# Altium schematic symbol library kmilo17pet-LT_OpAmp_LT2000.SchLib: 1710 symbols (part 60 of 75)
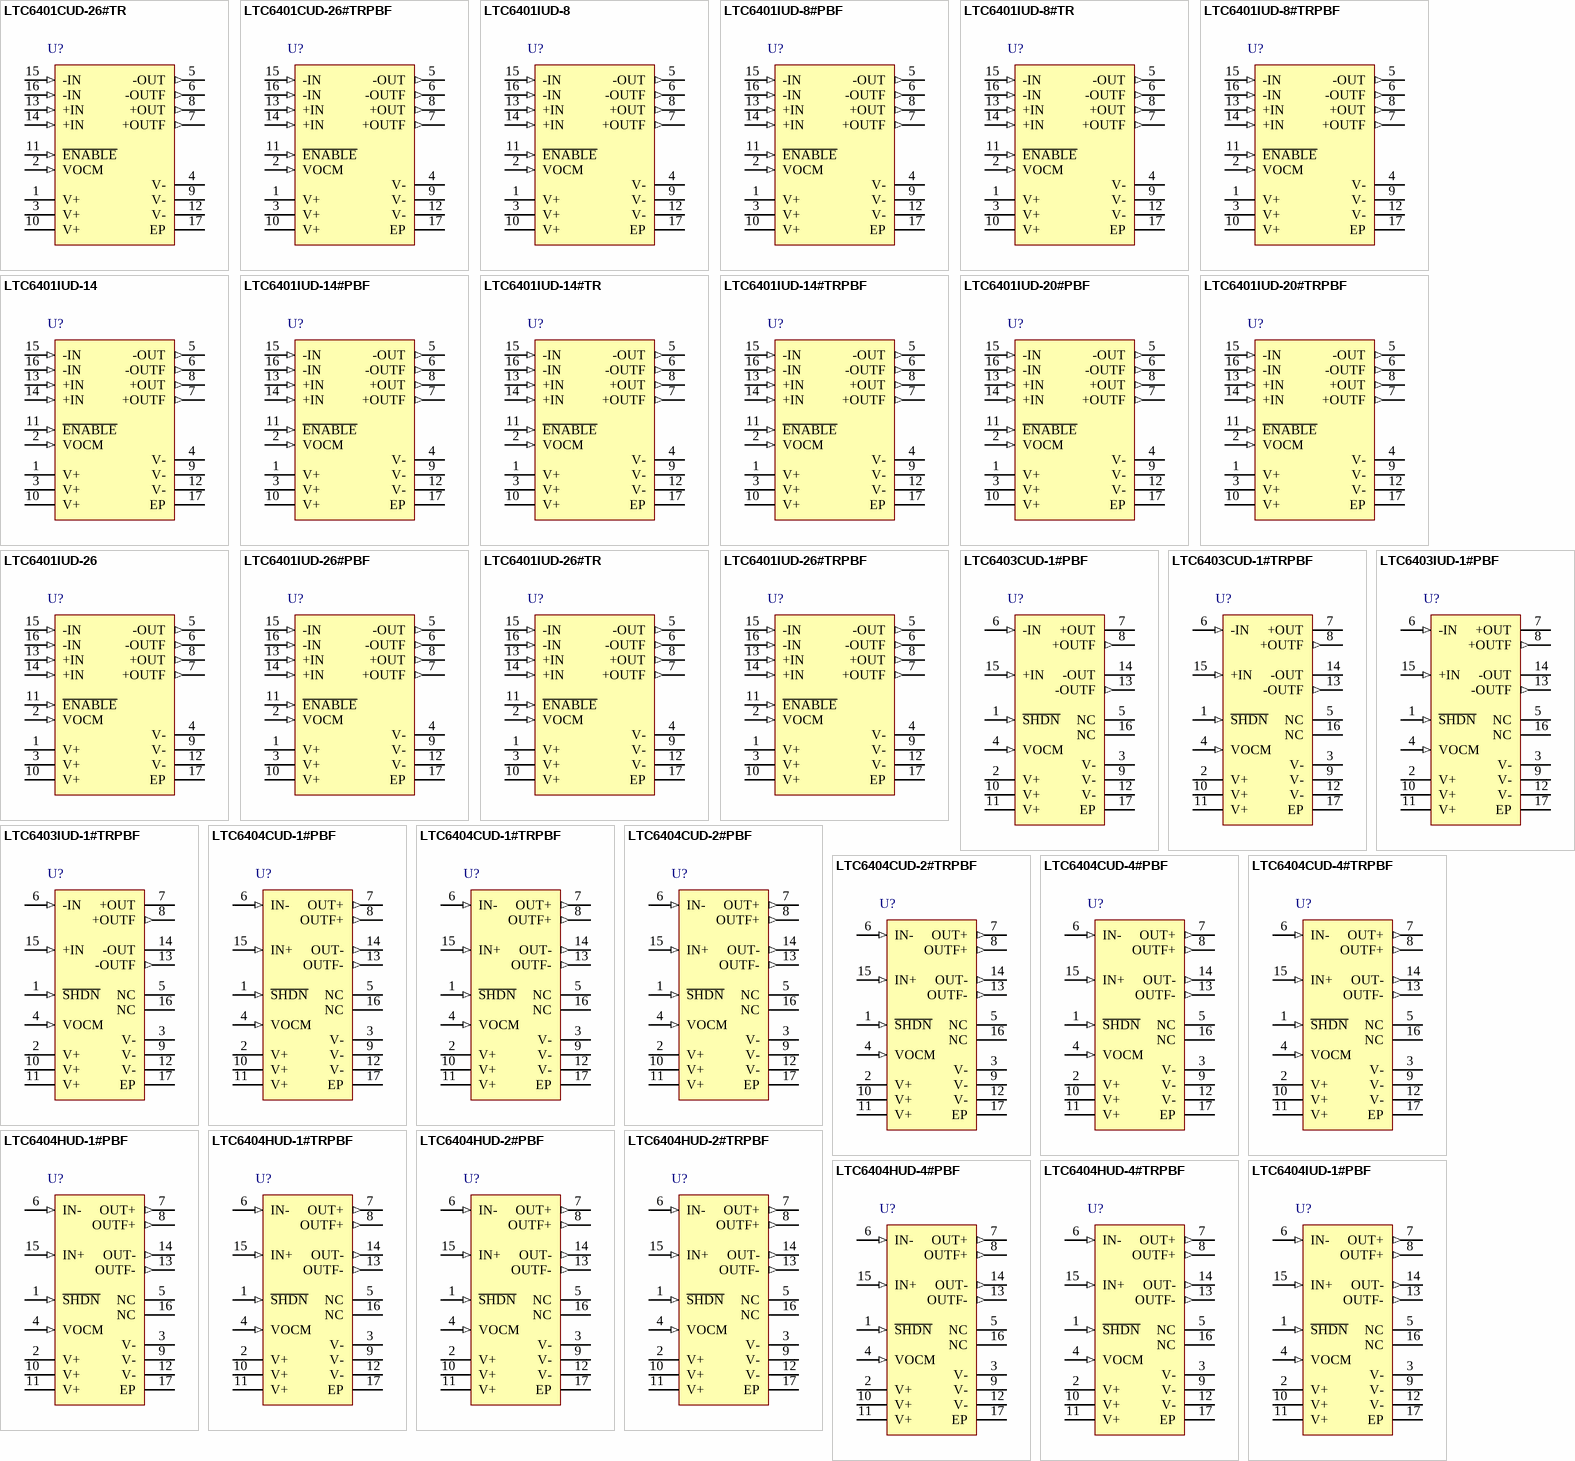
[diagram p139: symbols LTC6401CUD-26#TR to LTC6404IUD-1#PBF]

## LTC6404HUD-1#TRPBF
designator U?
Single Channel, Low Noise, High Precision, Fully Differential Input / Output Amplifier / Driver, 600 MHz Typical GBW, 450 V/us Typical SR, 2.7 to 5.5 V, 16-Pin QFN (UD-16), High Temperature / Automotive, Pb-Free, Reel; Linear Technology Part Number: LTC6404-1; Manufacturer: Linear Technology; PartNumber: LTC6404HUD-1#TRPBF; Channels (#): 1; GBW (MHz) Typical: 600; Is (mA) Typical: 27.2; SR (V/us) Typical: 450; Vos (mV) Typical: 0.5; Vs Max (V): 5.5; Vs Min (V): 2.7; PackageReference: LT-UD-16; PackageDescription: 16-Lead Plastic QFN, Body 3.00 x 3.00 mm, Pitch 0.5 mm; Supplier 1: Digi-Key; Supplier Part Number 1: LTC6404HUD-1#TRPBF-ND; Packing: Reel; RoHS: Pb-Free; Type: DIFF; Mounting Technology: Surface Mount; Code_JEDEC: MO-220; ComponentLink1Description: Manufacturer URL; ComponentLink1URL: http://www.linear.com/; ComponentLink2Description: Datasheet; ComponentLink2URL: http://cds.linear.com/docs/en/datasheet/6404f.pdf; ComponentLink3Description: Package Specification; ComponentLink3URL: http://cds.linear.com/docs/en/packaging/QFN_16_05-08-1691.pdf
footprint LT-UD-16_N (QFN, 16-Leads, Body 3x3mm, Pitch 0.5mm, Thermal Pad 1.45x1.45mm, IPC Medium Density)
footprint LT-UD-16_L (QFN, 16-Leads, Body 3x3mm, Pitch 0.5mm, Thermal Pad 1.45x1.45mm, IPC High Density)
footprint LT-UD-16_M (QFN, 16-Leads, Body 3x3mm, Pitch 0.5mm, Thermal Pad 1.45x1.45mm, IPC Low Density)
pins: 1 ~{SHDN} (in) "When S\H\D\N\ is floating or directly tied to V+, the LTC6404 is in the normal (active) operating mode. When Pin 1 is pulled a minimum of 2.1V below V+, the LTC6404 enters into a low power shutdown state. See Applications (See Datasheet)", 2 V+ (power) "Power Supply Pins. Three pairs of power supply pins are provided to keep the power supply inductance as low as possible to prevent degradation of amplifier 2nd harmonic performance. See the Layout Considerations section for (See Datasheet)", 3 V- (power) "Power Supply Pins. Three pairs of power supply pins are provided to keep the power supply inductance as low as possible to prevent degradation of amplifier 2nd harmonic performance. See the Layout Considerations section for (See Datasheet)", 4 VOCM (in) "Output Common Mode Reference Voltage. The voltage on VOCM sets the output common mode voltage level (which is defined as the average of the voltages on the OUT+ and OUT- pins). The VOCM pin is the midpoint of an internal (See Datasheet)", 5 NC "No Connection. These pins are not connected internally.", 6 IN- (in) "Noninverting and Inverting Input Pins of the Amplifi er, Respectively. For best performance, it is highly recommended that stray capacitance be kept to an absolute minimum by keeping printed circuit connections as short as (See Datasheet)", 7 OUT+ (out) "Unfi ltered Output Pins. Besides driving the feedback network, each pin can drive an additional 50ohm to ground with typical short-circuit current limiting of +/-65mA. Each amplifi er output is designed to drive a load (See Datasheet)", 8 OUTF+ (out) "Filtered Output Pins. These pins have a series 50ohm resistor connected between the fi ltered and unfi ltered outputs and three 12pF capacitors. Both OUTF+ and OUTF- have 12pF to V-, plus an additional 12pF differentially (See Datasheet)", 9 V- (power) "Power Supply Pins. Three pairs of power supply pins are provided to keep the power supply inductance as low as possible to prevent degradation of amplifier 2nd harmonic performance. See the Layout Considerations section for (See Datasheet)", 10 V+ (power) "Power Supply Pins. Three pairs of power supply pins are provided to keep the power supply inductance as low as possible to prevent degradation of amplifier 2nd harmonic performance. See the Layout Considerations section for (See Datasheet)", 11 V+ (power) "Power Supply Pins. Three pairs of power supply pins are provided to keep the power supply inductance as low as possible to prevent degradation of amplifier 2nd harmonic performance. See the Layout Considerations section for (See Datasheet)", 12 V- (power) "Power Supply Pins. Three pairs of power supply pins are provided to keep the power supply inductance as low as possible to prevent degradation of amplifier 2nd harmonic performance. See the Layout Considerations section for (See Datasheet)", 13 OUTF- (out) "Filtered Output Pins. These pins have a series 50ohm resistor connected between the fi ltered and unfi ltered outputs and three 12pF capacitors. Both OUTF+ and OUTF- have 12pF to V-, plus an additional 12pF differentially (See Datasheet)", 14 OUT- (out) "Unfiltered Output Pins. Besides driving the feedback network, each pin can drive an additional 50ohm to ground with typical short-circuit current limiting of +/-65mA. Each amplifi er output is designed to drive a load (See Datasheet)", 15 IN+ (in) "Noninverting and Inverting Input Pins of the Amplifi er, Respectively. For best performance, it is highly recommended that stray capacitance be kept to an absolute minimum by keeping printed circuit connections as short as (See Datasheet)", 16 NC "No Connection. These pins are not connected internally.", 17 EP (power) "Tie the pad to V- (Pins 3, 9, and 12). If split supplies are used, do not tie the pad to ground."

## LTC6404HUD-2#PBF
designator U?
Single Channel, Low Noise, High Precision, Fully Differential Input / Output Amplifier / Driver, 900 MHz Typical GBW, 700 V/us Typical SR, 2.7 to 5.5 V, 16-Pin QFN (UD-16), High Temperature / Automotive, Pb-Free; Linear Technology Part Number: LTC6404-2; Manufacturer: Linear Technology; PartNumber: LTC6404HUD-2#PBF; Channels (#): 1; GBW (MHz) Typical: 900; Is (mA) Typical: 29.7; SR (V/us) Typical: 700; Vos (mV) Typical: 0.5; Vs Max (V): 5.5; Vs Min (V): 2.7; PackageReference: LT-UD-16; PackageDescription: 16-Lead Plastic QFN, Body 3.00 x 3.00 mm, Pitch 0.5 mm; Supplier 1: Digi-Key; Supplier Part Number 1: LTC6404HUD-2#PBF-ND; RoHS: Pb-Free; Type: DIFF; Mounting Technology: Surface Mount; Code_JEDEC: MO-220; ComponentLink1Description: Manufacturer URL; ComponentLink1URL: http://www.linear.com/; ComponentLink2Description: Datasheet; ComponentLink2URL: http://cds.linear.com/docs/en/datasheet/6404f.pdf; ComponentLink3Description: Package Specification; ComponentLink3URL: http://cds.linear.com/docs/en/packaging/QFN_16_05-08-1691.pdf
footprint LT-UD-16_N (QFN, 16-Leads, Body 3x3mm, Pitch 0.5mm, Thermal Pad 1.45x1.45mm, IPC Medium Density)
footprint LT-UD-16_L (QFN, 16-Leads, Body 3x3mm, Pitch 0.5mm, Thermal Pad 1.45x1.45mm, IPC High Density)
footprint LT-UD-16_M (QFN, 16-Leads, Body 3x3mm, Pitch 0.5mm, Thermal Pad 1.45x1.45mm, IPC Low Density)
pins: 1 ~{SHDN} (in) "When S\H\D\N\ is floating or directly tied to V+, the LTC6404 is in the normal (active) operating mode. When Pin 1 is pulled a minimum of 2.1V below V+, the LTC6404 enters into a low power shutdown state. See Applications (See Datasheet)", 2 V+ (power) "Power Supply Pins. Three pairs of power supply pins are provided to keep the power supply inductance as low as possible to prevent degradation of amplifier 2nd harmonic performance. See the Layout Considerations section for (See Datasheet)", 3 V- (power) "Power Supply Pins. Three pairs of power supply pins are provided to keep the power supply inductance as low as possible to prevent degradation of amplifier 2nd harmonic performance. See the Layout Considerations section for (See Datasheet)", 4 VOCM (in) "Output Common Mode Reference Voltage. The voltage on VOCM sets the output common mode voltage level (which is defined as the average of the voltages on the OUT+ and OUT- pins). The VOCM pin is the midpoint of an internal (See Datasheet)", 5 NC "No Connection. These pins are not connected internally.", 6 IN- (in) "Noninverting and Inverting Input Pins of the Amplifi er, Respectively. For best performance, it is highly recommended that stray capacitance be kept to an absolute minimum by keeping printed circuit connections as short as (See Datasheet)", 7 OUT+ (out) "Unfi ltered Output Pins. Besides driving the feedback network, each pin can drive an additional 50ohm to ground with typical short-circuit current limiting of +/-65mA. Each amplifi er output is designed to drive a load (See Datasheet)", 8 OUTF+ (out) "Filtered Output Pins. These pins have a series 50ohm resistor connected between the fi ltered and unfi ltered outputs and three 12pF capacitors. Both OUTF+ and OUTF- have 12pF to V-, plus an additional 12pF differentially (See Datasheet)", 9 V- (power) "Power Supply Pins. Three pairs of power supply pins are provided to keep the power supply inductance as low as possible to prevent degradation of amplifier 2nd harmonic performance. See the Layout Considerations section for (See Datasheet)", 10 V+ (power) "Power Supply Pins. Three pairs of power supply pins are provided to keep the power supply inductance as low as possible to prevent degradation of amplifier 2nd harmonic performance. See the Layout Considerations section for (See Datasheet)", 11 V+ (power) "Power Supply Pins. Three pairs of power supply pins are provided to keep the power supply inductance as low as possible to prevent degradation of amplifier 2nd harmonic performance. See the Layout Considerations section for (See Datasheet)", 12 V- (power) "Power Supply Pins. Three pairs of power supply pins are provided to keep the power supply inductance as low as possible to prevent degradation of amplifier 2nd harmonic performance. See the Layout Considerations section for (See Datasheet)", 13 OUTF- (out) "Filtered Output Pins. These pins have a series 50ohm resistor connected between the fi ltered and unfi ltered outputs and three 12pF capacitors. Both OUTF+ and OUTF- have 12pF to V-, plus an additional 12pF differentially (See Datasheet)", 14 OUT- (out) "Unfiltered Output Pins. Besides driving the feedback network, each pin can drive an additional 50ohm to ground with typical short-circuit current limiting of +/-65mA. Each amplifi er output is designed to drive a load (See Datasheet)", 15 IN+ (in) "Noninverting and Inverting Input Pins of the Amplifi er, Respectively. For best performance, it is highly recommended that stray capacitance be kept to an absolute minimum by keeping printed circuit connections as short as (See Datasheet)", 16 NC "No Connection. These pins are not connected internally.", 17 EP (power) "Tie the pad to V- (Pins 3, 9, and 12). If split supplies are used, do not tie the pad to ground."

## LTC6404HUD-2#TRPBF
designator U?
Single Channel, Low Noise, High Precision, Fully Differential Input / Output Amplifier / Driver, 900 MHz Typical GBW, 700 V/us Typical SR, 2.7 to 5.5 V, 16-Pin QFN (UD-16), High Temperature / Automotive, Pb-Free, Reel; Linear Technology Part Number: LTC6404-2; Manufacturer: Linear Technology; PartNumber: LTC6404HUD-2#TRPBF; Channels (#): 1; GBW (MHz) Typical: 900; Is (mA) Typical: 29.7; SR (V/us) Typical: 700; Vos (mV) Typical: 0.5; Vs Max (V): 5.5; Vs Min (V): 2.7; PackageReference: LT-UD-16; PackageDescription: 16-Lead Plastic QFN, Body 3.00 x 3.00 mm, Pitch 0.5 mm; Supplier 1: Digi-Key; Supplier Part Number 1: LTC6404HUD-2#TRPBF-ND; Packing: Reel; RoHS: Pb-Free; Type: DIFF; Mounting Technology: Surface Mount; Code_JEDEC: MO-220; ComponentLink1Description: Manufacturer URL; ComponentLink1URL: http://www.linear.com/; ComponentLink2Description: Datasheet; ComponentLink2URL: http://cds.linear.com/docs/en/datasheet/6404f.pdf; ComponentLink3Description: Package Specification; ComponentLink3URL: http://cds.linear.com/docs/en/packaging/QFN_16_05-08-1691.pdf
footprint LT-UD-16_N (QFN, 16-Leads, Body 3x3mm, Pitch 0.5mm, Thermal Pad 1.45x1.45mm, IPC Medium Density)
footprint LT-UD-16_L (QFN, 16-Leads, Body 3x3mm, Pitch 0.5mm, Thermal Pad 1.45x1.45mm, IPC High Density)
footprint LT-UD-16_M (QFN, 16-Leads, Body 3x3mm, Pitch 0.5mm, Thermal Pad 1.45x1.45mm, IPC Low Density)
pins: 1 ~{SHDN} (in) "When S\H\D\N\ is floating or directly tied to V+, the LTC6404 is in the normal (active) operating mode. When Pin 1 is pulled a minimum of 2.1V below V+, the LTC6404 enters into a low power shutdown state. See Applications (See Datasheet)", 2 V+ (power) "Power Supply Pins. Three pairs of power supply pins are provided to keep the power supply inductance as low as possible to prevent degradation of amplifier 2nd harmonic performance. See the Layout Considerations section for (See Datasheet)", 3 V- (power) "Power Supply Pins. Three pairs of power supply pins are provided to keep the power supply inductance as low as possible to prevent degradation of amplifier 2nd harmonic performance. See the Layout Considerations section for (See Datasheet)", 4 VOCM (in) "Output Common Mode Reference Voltage. The voltage on VOCM sets the output common mode voltage level (which is defined as the average of the voltages on the OUT+ and OUT- pins). The VOCM pin is the midpoint of an internal (See Datasheet)", 5 NC "No Connection. These pins are not connected internally.", 6 IN- (in) "Noninverting and Inverting Input Pins of the Amplifi er, Respectively. For best performance, it is highly recommended that stray capacitance be kept to an absolute minimum by keeping printed circuit connections as short as (See Datasheet)", 7 OUT+ (out) "Unfi ltered Output Pins. Besides driving the feedback network, each pin can drive an additional 50ohm to ground with typical short-circuit current limiting of +/-65mA. Each amplifi er output is designed to drive a load (See Datasheet)", 8 OUTF+ (out) "Filtered Output Pins. These pins have a series 50ohm resistor connected between the fi ltered and unfi ltered outputs and three 12pF capacitors. Both OUTF+ and OUTF- have 12pF to V-, plus an additional 12pF differentially (See Datasheet)", 9 V- (power) "Power Supply Pins. Three pairs of power supply pins are provided to keep the power supply inductance as low as possible to prevent degradation of amplifier 2nd harmonic performance. See the Layout Considerations section for (See Datasheet)", 10 V+ (power) "Power Supply Pins. Three pairs of power supply pins are provided to keep the power supply inductance as low as possible to prevent degradation of amplifier 2nd harmonic performance. See the Layout Considerations section for (See Datasheet)", 11 V+ (power) "Power Supply Pins. Three pairs of power supply pins are provided to keep the power supply inductance as low as possible to prevent degradation of amplifier 2nd harmonic performance. See the Layout Considerations section for (See Datasheet)", 12 V- (power) "Power Supply Pins. Three pairs of power supply pins are provided to keep the power supply inductance as low as possible to prevent degradation of amplifier 2nd harmonic performance. See the Layout Considerations section for (See Datasheet)", 13 OUTF- (out) "Filtered Output Pins. These pins have a series 50ohm resistor connected between the fi ltered and unfi ltered outputs and three 12pF capacitors. Both OUTF+ and OUTF- have 12pF to V-, plus an additional 12pF differentially (See Datasheet)", 14 OUT- (out) "Unfiltered Output Pins. Besides driving the feedback network, each pin can drive an additional 50ohm to ground with typical short-circuit current limiting of +/-65mA. Each amplifi er output is designed to drive a load (See Datasheet)", 15 IN+ (in) "Noninverting and Inverting Input Pins of the Amplifi er, Respectively. For best performance, it is highly recommended that stray capacitance be kept to an absolute minimum by keeping printed circuit connections as short as (See Datasheet)", 16 NC "No Connection. These pins are not connected internally.", 17 EP (power) "Tie the pad to V- (Pins 3, 9, and 12). If split supplies are used, do not tie the pad to ground."

## LTC6404HUD-4#PBF
designator U?
Single Channel, Low Noise, High Precision, Fully Differential Input / Output Amplifier / Driver, 1700 MHz Typical GBW, 1200 V/us Typical SR, 2.7 to 5.5 V, 16-Pin QFN (UD-16), High Temperature / Automotive, Pb-Free; Linear Technology Part Number: LTC6404-4; Manufacturer: Linear Technology; PartNumber: LTC6404HUD-4#PBF; Channels (#): 1; GBW (MHz) Typical: 1700; Is (mA) Typical: 30; SR (V/us) Typical: 1200; Vos (mV) Typical: 0.5; Vs Max (V): 5.5; Vs Min (V): 2.7; PackageReference: LT-UD-16; PackageDescription: 16-Lead Plastic QFN, Body 3.00 x 3.00 mm, Pitch 0.5 mm; Supplier 1: Digi-Key; Supplier Part Number 1: LTC6404HUD-4#PBF-ND; RoHS: Pb-Free; Type: DIFF; Mounting Technology: Surface Mount; Code_JEDEC: MO-220; ComponentLink1Description: Manufacturer URL; ComponentLink1URL: http://www.linear.com/; ComponentLink2Description: Datasheet; ComponentLink2URL: http://cds.linear.com/docs/en/datasheet/6404f.pdf; ComponentLink3Description: Package Specification; ComponentLink3URL: http://cds.linear.com/docs/en/packaging/QFN_16_05-08-1691.pdf
footprint LT-UD-16_N (QFN, 16-Leads, Body 3x3mm, Pitch 0.5mm, Thermal Pad 1.45x1.45mm, IPC Medium Density)
footprint LT-UD-16_L (QFN, 16-Leads, Body 3x3mm, Pitch 0.5mm, Thermal Pad 1.45x1.45mm, IPC High Density)
footprint LT-UD-16_M (QFN, 16-Leads, Body 3x3mm, Pitch 0.5mm, Thermal Pad 1.45x1.45mm, IPC Low Density)
pins: 1 ~{SHDN} (in) "When S\H\D\N\ is floating or directly tied to V+, the LTC6404 is in the normal (active) operating mode. When Pin 1 is pulled a minimum of 2.1V below V+, the LTC6404 enters into a low power shutdown state. See Applications (See Datasheet)", 2 V+ (power) "Power Supply Pins. Three pairs of power supply pins are provided to keep the power supply inductance as low as possible to prevent degradation of amplifier 2nd harmonic performance. See the Layout Considerations section for (See Datasheet)", 3 V- (power) "Power Supply Pins. Three pairs of power supply pins are provided to keep the power supply inductance as low as possible to prevent degradation of amplifier 2nd harmonic performance. See the Layout Considerations section for (See Datasheet)", 4 VOCM (in) "Output Common Mode Reference Voltage. The voltage on VOCM sets the output common mode voltage level (which is defined as the average of the voltages on the OUT+ and OUT- pins). The VOCM pin is the midpoint of an internal (See Datasheet)", 5 NC "No Connection. These pins are not connected internally.", 6 IN- (in) "Noninverting and Inverting Input Pins of the Amplifier, Respectively. For best performance, it is highly recommended that stray capacitance be kept to an absolute minimum by keeping printed circuit connections as short as (See Datasheet)", 7 OUT+ (out) "Unfiltered Output Pins. Besides driving the feedback network, each pin can drive an additional 50ohm to ground with typical short-circuit current limiting of +/-65mA. Each amplifier output is designed to drive a load (See Datasheet)", 8 OUTF+ (out) "Filtered Output Pins. These pins have a series 50ohm resistor connected between the filtered and unfiltered outputs and three 12pF capacitors. Both OUTF+ and OUTF- have 12pF to V-, plus an additional 12pF differentially (See Datasheet)", 9 V- (power) "Power Supply Pins. Three pairs of power supply pins are provided to keep the power supply inductance as low as possible to prevent degradation of amplifier 2nd harmonic performance. See the Layout Considerations section for (See Datasheet)", 10 V+ (power) "Power Supply Pins. Three pairs of power supply pins are provided to keep the power supply inductance as low as possible to prevent degradation of amplifier 2nd harmonic performance. See the Layout Considerations section for (See Datasheet)", 11 V+ (power) "Power Supply Pins. Three pairs of power supply pins are provided to keep the power supply inductance as low as possible to prevent degradation of amplifier 2nd harmonic performance. See the Layout Considerations section for (See Datasheet)", 12 V- (power) "Power Supply Pins. Three pairs of power supply pins are provided to keep the power supply inductance as low as possible to prevent degradation of amplifier 2nd harmonic performance. See the Layout Considerations section for (See Datasheet)", 13 OUTF- (out) "Filtered Output Pins. These pins have a series 50ohm resistor connected between the filtered and unfiltered outputs and three 12pF capacitors. Both OUTF+ and OUTF- have 12pF to V-, plus an additional 12pF differentially (See Datasheet)", 14 OUT- (out) "Unfiltered Output Pins. Besides driving the feedback network, each pin can drive an additional 50ohm to ground with typical short-circuit current limiting of +/-65mA. Each amplifier output is designed to drive a load (See Datasheet)", 15 IN+ (in) "Noninverting and Inverting Input Pins of the Amplifier, Respectively. For best performance, it is highly recommended that stray capacitance be kept to an absolute minimum by keeping printed circuit connections as short as (See Datasheet)", 16 NC "No Connection. These pins are not connected internally.", 17 EP (power) "Tie the pad to V- (Pins 3, 9, and 12). If split supplies are used, do not tie the pad to ground."

## LTC6404HUD-4#TRPBF
designator U?
Single Channel, Low Noise, High Precision, Fully Differential Input / Output Amplifier / Driver, 1700 MHz Typical GBW, 1200 V/us Typical SR, 2.7 to 5.5 V, 16-Pin QFN (UD-16), High Temperature / Automotive, Pb-Free, Reel; Linear Technology Part Number: LTC6404-4; Manufacturer: Linear Technology; PartNumber: LTC6404HUD-4#TRPBF; Channels (#): 1; GBW (MHz) Typical: 1700; Is (mA) Typical: 30; SR (V/us) Typical: 1200; Vos (mV) Typical: 0.5; Vs Max (V): 5.5; Vs Min (V): 2.7; PackageReference: LT-UD-16; PackageDescription: 16-Lead Plastic QFN, Body 3.00 x 3.00 mm, Pitch 0.5 mm; Supplier 1: Digi-Key; Supplier Part Number 1: LTC6404HUD-4#TRPBF-ND; Packing: Reel; RoHS: Pb-Free; Type: DIFF; Mounting Technology: Surface Mount; Code_JEDEC: MO-220; ComponentLink1Description: Manufacturer URL; ComponentLink1URL: http://www.linear.com/; ComponentLink2Description: Datasheet; ComponentLink2URL: http://cds.linear.com/docs/en/datasheet/6404f.pdf; ComponentLink3Description: Package Specification; ComponentLink3URL: http://cds.linear.com/docs/en/packaging/QFN_16_05-08-1691.pdf
footprint LT-UD-16_N (QFN, 16-Leads, Body 3x3mm, Pitch 0.5mm, Thermal Pad 1.45x1.45mm, IPC Medium Density)
footprint LT-UD-16_L (QFN, 16-Leads, Body 3x3mm, Pitch 0.5mm, Thermal Pad 1.45x1.45mm, IPC High Density)
footprint LT-UD-16_M (QFN, 16-Leads, Body 3x3mm, Pitch 0.5mm, Thermal Pad 1.45x1.45mm, IPC Low Density)
pins: 1 ~{SHDN} (in) "When S\H\D\N\ is floating or directly tied to V+, the LTC6404 is in the normal (active) operating mode. When Pin 1 is pulled a minimum of 2.1V below V+, the LTC6404 enters into a low power shutdown state. See Applications (See Datasheet)", 2 V+ (power) "Power Supply Pins. Three pairs of power supply pins are provided to keep the power supply inductance as low as possible to prevent degradation of amplifier 2nd harmonic performance. See the Layout Considerations section for (See Datasheet)", 3 V- (power) "Power Supply Pins. Three pairs of power supply pins are provided to keep the power supply inductance as low as possible to prevent degradation of amplifier 2nd harmonic performance. See the Layout Considerations section for (See Datasheet)", 4 VOCM (in) "Output Common Mode Reference Voltage. The voltage on VOCM sets the output common mode voltage level (which is defined as the average of the voltages on the OUT+ and OUT- pins). The VOCM pin is the midpoint of an internal (See Datasheet)", 5 NC "No Connection. These pins are not connected internally.", 6 IN- (in) "Noninverting and Inverting Input Pins of the Amplifier, Respectively. For best performance, it is highly recommended that stray capacitance be kept to an absolute minimum by keeping printed circuit connections as short as (See Datasheet)", 7 OUT+ (out) "Unfiltered Output Pins. Besides driving the feedback network, each pin can drive an additional 50ohm to ground with typical short-circuit current limiting of +/-65mA. Each amplifier output is designed to drive a load (See Datasheet)", 8 OUTF+ (out) "Filtered Output Pins. These pins have a series 50ohm resistor connected between the filtered and unfiltered outputs and three 12pF capacitors. Both OUTF+ and OUTF- have 12pF to V-, plus an additional 12pF differentially (See Datasheet)", 9 V- (power) "Power Supply Pins. Three pairs of power supply pins are provided to keep the power supply inductance as low as possible to prevent degradation of amplifier 2nd harmonic performance. See the Layout Considerations section for (See Datasheet)", 10 V+ (power) "Power Supply Pins. Three pairs of power supply pins are provided to keep the power supply inductance as low as possible to prevent degradation of amplifier 2nd harmonic performance. See the Layout Considerations section for (See Datasheet)", 11 V+ (power) "Power Supply Pins. Three pairs of power supply pins are provided to keep the power supply inductance as low as possible to prevent degradation of amplifier 2nd harmonic performance. See the Layout Considerations section for (See Datasheet)", 12 V- (power) "Power Supply Pins. Three pairs of power supply pins are provided to keep the power supply inductance as low as possible to prevent degradation of amplifier 2nd harmonic performance. See the Layout Considerations section for (See Datasheet)", 13 OUTF- (out) "Filtered Output Pins. These pins have a series 50ohm resistor connected between the filtered and unfiltered outputs and three 12pF capacitors. Both OUTF+ and OUTF- have 12pF to V-, plus an additional 12pF differentially (See Datasheet)", 14 OUT- (out) "Unfiltered Output Pins. Besides driving the feedback network, each pin can drive an additional 50ohm to ground with typical short-circuit current limiting of +/-65mA. Each amplifier output is designed to drive a load (See Datasheet)", 15 IN+ (in) "Noninverting and Inverting Input Pins of the Amplifier, Respectively. For best performance, it is highly recommended that stray capacitance be kept to an absolute minimum by keeping printed circuit connections as short as (See Datasheet)", 16 NC "No Connection. These pins are not connected internally.", 17 EP (power) "Tie the pad to V- (Pins 3, 9, and 12). If split supplies are used, do not tie the pad to ground."

## LTC6404IUD-1#PBF
designator U?
Single Channel, Low Noise, High Precision, Fully Differential Input / Output Amplifier / Driver, 600 MHz Typical GBW, 450 V/us Typical SR, 2.7 to 5.5 V, 16-Pin QFN (UD-16), Industrial, Pb-Free; Linear Technology Part Number: LTC6404-1; Manufacturer: Linear Technology; PartNumber: LTC6404IUD-1#PBF; Channels (#): 1; GBW (MHz) Typical: 600; Is (mA) Typical: 27.2; SR (V/us) Typical: 450; Vos (mV) Typical: 0.5; Vs Max (V): 5.5; Vs Min (V): 2.7; PackageReference: LT-UD-16; PackageDescription: 16-Lead Plastic QFN, Body 3.00 x 3.00 mm, Pitch 0.5 mm; Supplier 1: Digi-Key; Supplier Part Number 1: LTC6404IUD-1#PBF-ND; Supplier 2: Newark; Supplier Part Number 2: 75M4567; RoHS: Pb-Free; Type: DIFF; Mounting Technology: Surface Mount; Code_JEDEC: MO-220; ComponentLink1Description: Manufacturer URL; ComponentLink1URL: http://www.linear.com/; ComponentLink2Description: Datasheet; ComponentLink2URL: http://cds.linear.com/docs/en/datasheet/6404f.pdf; ComponentLink3Description: Package Specification; ComponentLink3URL: http://cds.linear.com/docs/en/packaging/QFN_16_05-08-1691.pdf
footprint LT-UD-16_N (QFN, 16-Leads, Body 3x3mm, Pitch 0.5mm, Thermal Pad 1.45x1.45mm, IPC Medium Density)
footprint LT-UD-16_L (QFN, 16-Leads, Body 3x3mm, Pitch 0.5mm, Thermal Pad 1.45x1.45mm, IPC High Density)
footprint LT-UD-16_M (QFN, 16-Leads, Body 3x3mm, Pitch 0.5mm, Thermal Pad 1.45x1.45mm, IPC Low Density)
pins: 1 ~{SHDN} (in) "When S\H\D\N\ is floating or directly tied to V+, the LTC6404 is in the normal (active) operating mode. When Pin 1 is pulled a minimum of 2.1V below V+, the LTC6404 enters into a low power shutdown state. See Applications (See Datasheet)", 2 V+ (power) "Power Supply Pins. Three pairs of power supply pins are provided to keep the power supply inductance as low as possible to prevent degradation of amplifier 2nd harmonic performance. See the Layout Considerations section for (See Datasheet)", 3 V- (power) "Power Supply Pins. Three pairs of power supply pins are provided to keep the power supply inductance as low as possible to prevent degradation of amplifier 2nd harmonic performance. See the Layout Considerations section for (See Datasheet)", 4 VOCM (in) "Output Common Mode Reference Voltage. The voltage on VOCM sets the output common mode voltage level (which is defined as the average of the voltages on the OUT+ and OUT- pins). The VOCM pin is the midpoint of an internal (See Datasheet)", 5 NC "No Connection. These pins are not connected internally.", 6 IN- (in) "Noninverting and Inverting Input Pins of the Amplifi er, Respectively. For best performance, it is highly recommended that stray capacitance be kept to an absolute minimum by keeping printed circuit connections as short as (See Datasheet)", 7 OUT+ (out) "Unfi ltered Output Pins. Besides driving the feedback network, each pin can drive an additional 50ohm to ground with typical short-circuit current limiting of +/-65mA. Each amplifi er output is designed to drive a load (See Datasheet)", 8 OUTF+ (out) "Filtered Output Pins. These pins have a series 50ohm resistor connected between the fi ltered and unfi ltered outputs and three 12pF capacitors. Both OUTF+ and OUTF- have 12pF to V-, plus an additional 12pF differentially (See Datasheet)", 9 V- (power) "Power Supply Pins. Three pairs of power supply pins are provided to keep the power supply inductance as low as possible to prevent degradation of amplifier 2nd harmonic performance. See the Layout Considerations section for (See Datasheet)", 10 V+ (power) "Power Supply Pins. Three pairs of power supply pins are provided to keep the power supply inductance as low as possible to prevent degradation of amplifier 2nd harmonic performance. See the Layout Considerations section for (See Datasheet)", 11 V+ (power) "Power Supply Pins. Three pairs of power supply pins are provided to keep the power supply inductance as low as possible to prevent degradation of amplifier 2nd harmonic performance. See the Layout Considerations section for (See Datasheet)", 12 V- (power) "Power Supply Pins. Three pairs of power supply pins are provided to keep the power supply inductance as low as possible to prevent degradation of amplifier 2nd harmonic performance. See the Layout Considerations section for (See Datasheet)", 13 OUTF- (out) "Filtered Output Pins. These pins have a series 50ohm resistor connected between the fi ltered and unfi ltered outputs and three 12pF capacitors. Both OUTF+ and OUTF- have 12pF to V-, plus an additional 12pF differentially (See Datasheet)", 14 OUT- (out) "Unfiltered Output Pins. Besides driving the feedback network, each pin can drive an additional 50ohm to ground with typical short-circuit current limiting of +/-65mA. Each amplifi er output is designed to drive a load (See Datasheet)", 15 IN+ (in) "Noninverting and Inverting Input Pins of the Amplifi er, Respectively. For best performance, it is highly recommended that stray capacitance be kept to an absolute minimum by keeping printed circuit connections as short as (See Datasheet)", 16 NC "No Connection. These pins are not connected internally.", 17 EP (power) "Tie the pad to V- (Pins 3, 9, and 12). If split supplies are used, do not tie the pad to ground."

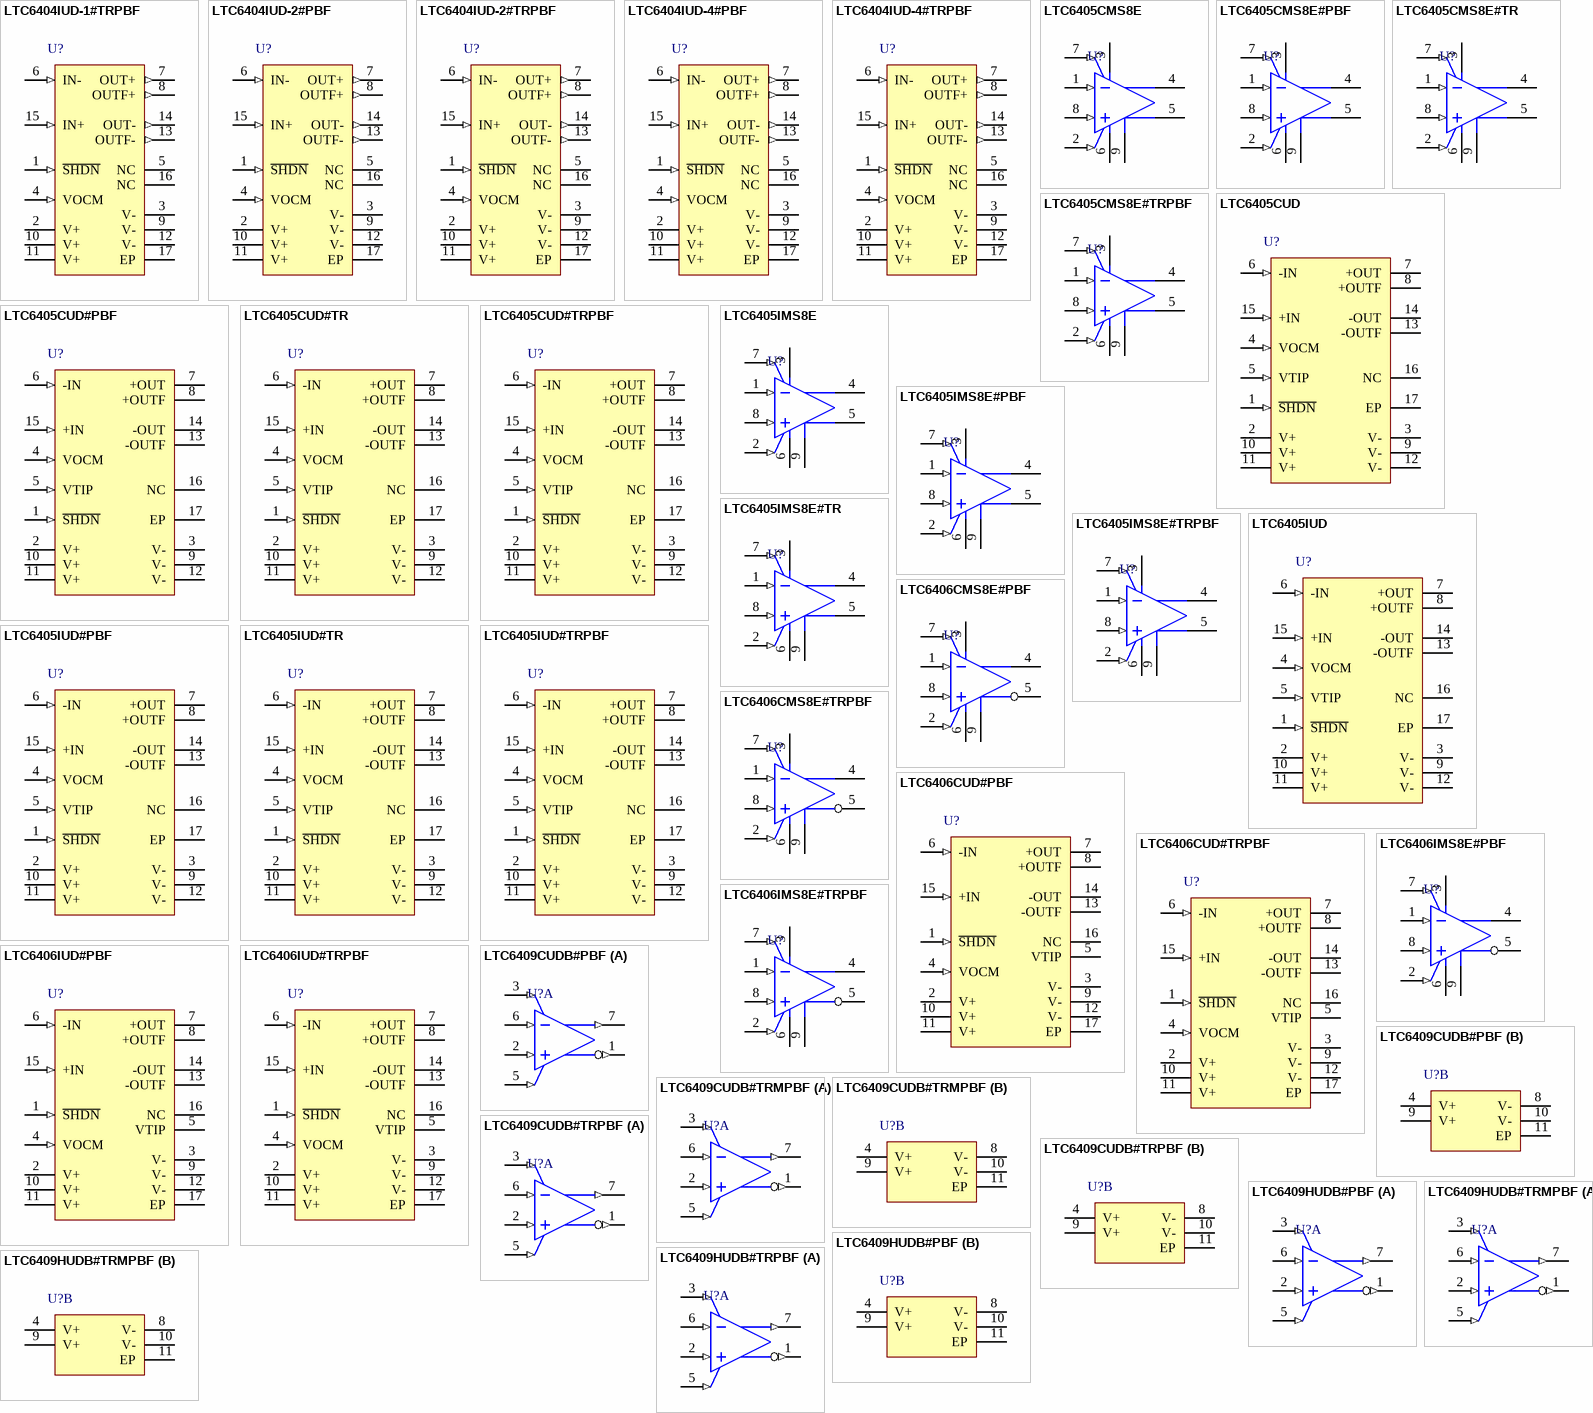
[diagram p74: symbols LTC6404IUD-1#TRPBF to LTC6409HUDB#TRPBF]

## LTC6404IUD-1#TRPBF
designator U?
Single Channel, Low Noise, High Precision, Fully Differential Input / Output Amplifier / Driver, 600 MHz Typical GBW, 450 V/us Typical SR, 2.7 to 5.5 V, 16-Pin QFN (UD-16), Industrial, Pb-Free, Reel; Linear Technology Part Number: LTC6404-1; Manufacturer: Linear Technology; PartNumber: LTC6404IUD-1#TRPBF; Channels (#): 1; GBW (MHz) Typical: 600; Is (mA) Typical: 27.2; SR (V/us) Typical: 450; Vos (mV) Typical: 0.5; Vs Max (V): 5.5; Vs Min (V): 2.7; PackageReference: LT-UD-16; PackageDescription: 16-Lead Plastic QFN, Body 3.00 x 3.00 mm, Pitch 0.5 mm; Supplier 1: Digi-Key; Supplier Part Number 1: LTC6404IUD-1#TRPBF-ND; Packing: Reel; RoHS: Pb-Free; Type: DIFF; Mounting Technology: Surface Mount; Code_JEDEC: MO-220; ComponentLink1Description: Manufacturer URL; ComponentLink1URL: http://www.linear.com/; ComponentLink2Description: Datasheet; ComponentLink2URL: http://cds.linear.com/docs/en/datasheet/6404f.pdf; ComponentLink3Description: Package Specification; ComponentLink3URL: http://cds.linear.com/docs/en/packaging/QFN_16_05-08-1691.pdf
footprint LT-UD-16_N (QFN, 16-Leads, Body 3x3mm, Pitch 0.5mm, Thermal Pad 1.45x1.45mm, IPC Medium Density)
footprint LT-UD-16_L (QFN, 16-Leads, Body 3x3mm, Pitch 0.5mm, Thermal Pad 1.45x1.45mm, IPC High Density)
footprint LT-UD-16_M (QFN, 16-Leads, Body 3x3mm, Pitch 0.5mm, Thermal Pad 1.45x1.45mm, IPC Low Density)
pins: 1 ~{SHDN} (in) "When S\H\D\N\ is floating or directly tied to V+, the LTC6404 is in the normal (active) operating mode. When Pin 1 is pulled a minimum of 2.1V below V+, the LTC6404 enters into a low power shutdown state. See Applications (See Datasheet)", 2 V+ (power) "Power Supply Pins. Three pairs of power supply pins are provided to keep the power supply inductance as low as possible to prevent degradation of amplifier 2nd harmonic performance. See the Layout Considerations section for (See Datasheet)", 3 V- (power) "Power Supply Pins. Three pairs of power supply pins are provided to keep the power supply inductance as low as possible to prevent degradation of amplifier 2nd harmonic performance. See the Layout Considerations section for (See Datasheet)", 4 VOCM (in) "Output Common Mode Reference Voltage. The voltage on VOCM sets the output common mode voltage level (which is defined as the average of the voltages on the OUT+ and OUT- pins). The VOCM pin is the midpoint of an internal (See Datasheet)", 5 NC "No Connection. These pins are not connected internally.", 6 IN- (in) "Noninverting and Inverting Input Pins of the Amplifi er, Respectively. For best performance, it is highly recommended that stray capacitance be kept to an absolute minimum by keeping printed circuit connections as short as (See Datasheet)", 7 OUT+ (out) "Unfi ltered Output Pins. Besides driving the feedback network, each pin can drive an additional 50ohm to ground with typical short-circuit current limiting of +/-65mA. Each amplifi er output is designed to drive a load (See Datasheet)", 8 OUTF+ (out) "Filtered Output Pins. These pins have a series 50ohm resistor connected between the fi ltered and unfi ltered outputs and three 12pF capacitors. Both OUTF+ and OUTF- have 12pF to V-, plus an additional 12pF differentially (See Datasheet)", 9 V- (power) "Power Supply Pins. Three pairs of power supply pins are provided to keep the power supply inductance as low as possible to prevent degradation of amplifier 2nd harmonic performance. See the Layout Considerations section for (See Datasheet)", 10 V+ (power) "Power Supply Pins. Three pairs of power supply pins are provided to keep the power supply inductance as low as possible to prevent degradation of amplifier 2nd harmonic performance. See the Layout Considerations section for (See Datasheet)", 11 V+ (power) "Power Supply Pins. Three pairs of power supply pins are provided to keep the power supply inductance as low as possible to prevent degradation of amplifier 2nd harmonic performance. See the Layout Considerations section for (See Datasheet)", 12 V- (power) "Power Supply Pins. Three pairs of power supply pins are provided to keep the power supply inductance as low as possible to prevent degradation of amplifier 2nd harmonic performance. See the Layout Considerations section for (See Datasheet)", 13 OUTF- (out) "Filtered Output Pins. These pins have a series 50ohm resistor connected between the fi ltered and unfi ltered outputs and three 12pF capacitors. Both OUTF+ and OUTF- have 12pF to V-, plus an additional 12pF differentially (See Datasheet)", 14 OUT- (out) "Unfiltered Output Pins. Besides driving the feedback network, each pin can drive an additional 50ohm to ground with typical short-circuit current limiting of +/-65mA. Each amplifi er output is designed to drive a load (See Datasheet)", 15 IN+ (in) "Noninverting and Inverting Input Pins of the Amplifi er, Respectively. For best performance, it is highly recommended that stray capacitance be kept to an absolute minimum by keeping printed circuit connections as short as (See Datasheet)", 16 NC "No Connection. These pins are not connected internally.", 17 EP (power) "Tie the pad to V- (Pins 3, 9, and 12). If split supplies are used, do not tie the pad to ground."

## LTC6404IUD-2#PBF
designator U?
Single Channel, Low Noise, High Precision, Fully Differential Input / Output Amplifier / Driver, 900 MHz Typical GBW, 700 V/us Typical SR, 2.7 to 5.5 V, 16-Pin QFN (UD-16), Industrial, Pb-Free; Linear Technology Part Number: LTC6404-2; Manufacturer: Linear Technology; PartNumber: LTC6404IUD-2#PBF; Channels (#): 1; GBW (MHz) Typical: 900; Is (mA) Typical: 29.7; SR (V/us) Typical: 700; Vos (mV) Typical: 0.5; Vs Max (V): 5.5; Vs Min (V): 2.7; PackageReference: LT-UD-16; PackageDescription: 16-Lead Plastic QFN, Body 3.00 x 3.00 mm, Pitch 0.5 mm; Supplier 1: Digi-Key; Supplier Part Number 1: LTC6404IUD-2#PBF-ND; Supplier 2: Newark; Supplier Part Number 2: 75M4569; RoHS: Pb-Free; Type: DIFF; Mounting Technology: Surface Mount; Code_JEDEC: MO-220; ComponentLink1Description: Manufacturer URL; ComponentLink1URL: http://www.linear.com/; ComponentLink2Description: Datasheet; ComponentLink2URL: http://cds.linear.com/docs/en/datasheet/6404f.pdf; ComponentLink3Description: Package Specification; ComponentLink3URL: http://cds.linear.com/docs/en/packaging/QFN_16_05-08-1691.pdf
footprint LT-UD-16_N (QFN, 16-Leads, Body 3x3mm, Pitch 0.5mm, Thermal Pad 1.45x1.45mm, IPC Medium Density)
footprint LT-UD-16_L (QFN, 16-Leads, Body 3x3mm, Pitch 0.5mm, Thermal Pad 1.45x1.45mm, IPC High Density)
footprint LT-UD-16_M (QFN, 16-Leads, Body 3x3mm, Pitch 0.5mm, Thermal Pad 1.45x1.45mm, IPC Low Density)
pins: 1 ~{SHDN} (in) "When S\H\D\N\ is floating or directly tied to V+, the LTC6404 is in the normal (active) operating mode. When Pin 1 is pulled a minimum of 2.1V below V+, the LTC6404 enters into a low power shutdown state. See Applications (See Datasheet)", 2 V+ (power) "Power Supply Pins. Three pairs of power supply pins are provided to keep the power supply inductance as low as possible to prevent degradation of amplifier 2nd harmonic performance. See the Layout Considerations section for (See Datasheet)", 3 V- (power) "Power Supply Pins. Three pairs of power supply pins are provided to keep the power supply inductance as low as possible to prevent degradation of amplifier 2nd harmonic performance. See the Layout Considerations section for (See Datasheet)", 4 VOCM (in) "Output Common Mode Reference Voltage. The voltage on VOCM sets the output common mode voltage level (which is defined as the average of the voltages on the OUT+ and OUT- pins). The VOCM pin is the midpoint of an internal (See Datasheet)", 5 NC "No Connection. These pins are not connected internally.", 6 IN- (in) "Noninverting and Inverting Input Pins of the Amplifi er, Respectively. For best performance, it is highly recommended that stray capacitance be kept to an absolute minimum by keeping printed circuit connections as short as (See Datasheet)", 7 OUT+ (out) "Unfi ltered Output Pins. Besides driving the feedback network, each pin can drive an additional 50ohm to ground with typical short-circuit current limiting of +/-65mA. Each amplifi er output is designed to drive a load (See Datasheet)", 8 OUTF+ (out) "Filtered Output Pins. These pins have a series 50ohm resistor connected between the fi ltered and unfi ltered outputs and three 12pF capacitors. Both OUTF+ and OUTF- have 12pF to V-, plus an additional 12pF differentially (See Datasheet)", 9 V- (power) "Power Supply Pins. Three pairs of power supply pins are provided to keep the power supply inductance as low as possible to prevent degradation of amplifier 2nd harmonic performance. See the Layout Considerations section for (See Datasheet)", 10 V+ (power) "Power Supply Pins. Three pairs of power supply pins are provided to keep the power supply inductance as low as possible to prevent degradation of amplifier 2nd harmonic performance. See the Layout Considerations section for (See Datasheet)", 11 V+ (power) "Power Supply Pins. Three pairs of power supply pins are provided to keep the power supply inductance as low as possible to prevent degradation of amplifier 2nd harmonic performance. See the Layout Considerations section for (See Datasheet)", 12 V- (power) "Power Supply Pins. Three pairs of power supply pins are provided to keep the power supply inductance as low as possible to prevent degradation of amplifier 2nd harmonic performance. See the Layout Considerations section for (See Datasheet)", 13 OUTF- (out) "Filtered Output Pins. These pins have a series 50ohm resistor connected between the fi ltered and unfi ltered outputs and three 12pF capacitors. Both OUTF+ and OUTF- have 12pF to V-, plus an additional 12pF differentially (See Datasheet)", 14 OUT- (out) "Unfiltered Output Pins. Besides driving the feedback network, each pin can drive an additional 50ohm to ground with typical short-circuit current limiting of +/-65mA. Each amplifi er output is designed to drive a load (See Datasheet)", 15 IN+ (in) "Noninverting and Inverting Input Pins of the Amplifi er, Respectively. For best performance, it is highly recommended that stray capacitance be kept to an absolute minimum by keeping printed circuit connections as short as (See Datasheet)", 16 NC "No Connection. These pins are not connected internally.", 17 EP (power) "Tie the pad to V- (Pins 3, 9, and 12). If split supplies are used, do not tie the pad to ground."

## LTC6404IUD-2#TRPBF
designator U?
Single Channel, Low Noise, High Precision, Fully Differential Input / Output Amplifier / Driver, 900 MHz Typical GBW, 700 V/us Typical SR, 2.7 to 5.5 V, 16-Pin QFN (UD-16), Industrial, Pb-Free, Reel; Linear Technology Part Number: LTC6404-2; Manufacturer: Linear Technology; PartNumber: LTC6404IUD-2#TRPBF; Channels (#): 1; GBW (MHz) Typical: 900; Is (mA) Typical: 29.7; SR (V/us) Typical: 700; Vos (mV) Typical: 0.5; Vs Max (V): 5.5; Vs Min (V): 2.7; PackageReference: LT-UD-16; PackageDescription: 16-Lead Plastic QFN, Body 3.00 x 3.00 mm, Pitch 0.5 mm; Supplier 1: Digi-Key; Supplier Part Number 1: LTC6404IUD-2#TRPBF-ND; Packing: Reel; RoHS: Pb-Free; Type: DIFF; Mounting Technology: Surface Mount; Code_JEDEC: MO-220; ComponentLink1Description: Manufacturer URL; ComponentLink1URL: http://www.linear.com/; ComponentLink2Description: Datasheet; ComponentLink2URL: http://cds.linear.com/docs/en/datasheet/6404f.pdf; ComponentLink3Description: Package Specification; ComponentLink3URL: http://cds.linear.com/docs/en/packaging/QFN_16_05-08-1691.pdf
footprint LT-UD-16_N (QFN, 16-Leads, Body 3x3mm, Pitch 0.5mm, Thermal Pad 1.45x1.45mm, IPC Medium Density)
footprint LT-UD-16_L (QFN, 16-Leads, Body 3x3mm, Pitch 0.5mm, Thermal Pad 1.45x1.45mm, IPC High Density)
footprint LT-UD-16_M (QFN, 16-Leads, Body 3x3mm, Pitch 0.5mm, Thermal Pad 1.45x1.45mm, IPC Low Density)
pins: 1 ~{SHDN} (in) "When S\H\D\N\ is floating or directly tied to V+, the LTC6404 is in the normal (active) operating mode. When Pin 1 is pulled a minimum of 2.1V below V+, the LTC6404 enters into a low power shutdown state. See Applications (See Datasheet)", 2 V+ (power) "Power Supply Pins. Three pairs of power supply pins are provided to keep the power supply inductance as low as possible to prevent degradation of amplifier 2nd harmonic performance. See the Layout Considerations section for (See Datasheet)", 3 V- (power) "Power Supply Pins. Three pairs of power supply pins are provided to keep the power supply inductance as low as possible to prevent degradation of amplifier 2nd harmonic performance. See the Layout Considerations section for (See Datasheet)", 4 VOCM (in) "Output Common Mode Reference Voltage. The voltage on VOCM sets the output common mode voltage level (which is defined as the average of the voltages on the OUT+ and OUT- pins). The VOCM pin is the midpoint of an internal (See Datasheet)", 5 NC "No Connection. These pins are not connected internally.", 6 IN- (in) "Noninverting and Inverting Input Pins of the Amplifi er, Respectively. For best performance, it is highly recommended that stray capacitance be kept to an absolute minimum by keeping printed circuit connections as short as (See Datasheet)", 7 OUT+ (out) "Unfi ltered Output Pins. Besides driving the feedback network, each pin can drive an additional 50ohm to ground with typical short-circuit current limiting of +/-65mA. Each amplifi er output is designed to drive a load (See Datasheet)", 8 OUTF+ (out) "Filtered Output Pins. These pins have a series 50ohm resistor connected between the fi ltered and unfi ltered outputs and three 12pF capacitors. Both OUTF+ and OUTF- have 12pF to V-, plus an additional 12pF differentially (See Datasheet)", 9 V- (power) "Power Supply Pins. Three pairs of power supply pins are provided to keep the power supply inductance as low as possible to prevent degradation of amplifier 2nd harmonic performance. See the Layout Considerations section for (See Datasheet)", 10 V+ (power) "Power Supply Pins. Three pairs of power supply pins are provided to keep the power supply inductance as low as possible to prevent degradation of amplifier 2nd harmonic performance. See the Layout Considerations section for (See Datasheet)", 11 V+ (power) "Power Supply Pins. Three pairs of power supply pins are provided to keep the power supply inductance as low as possible to prevent degradation of amplifier 2nd harmonic performance. See the Layout Considerations section for (See Datasheet)", 12 V- (power) "Power Supply Pins. Three pairs of power supply pins are provided to keep the power supply inductance as low as possible to prevent degradation of amplifier 2nd harmonic performance. See the Layout Considerations section for (See Datasheet)", 13 OUTF- (out) "Filtered Output Pins. These pins have a series 50ohm resistor connected between the fi ltered and unfi ltered outputs and three 12pF capacitors. Both OUTF+ and OUTF- have 12pF to V-, plus an additional 12pF differentially (See Datasheet)", 14 OUT- (out) "Unfiltered Output Pins. Besides driving the feedback network, each pin can drive an additional 50ohm to ground with typical short-circuit current limiting of +/-65mA. Each amplifi er output is designed to drive a load (See Datasheet)", 15 IN+ (in) "Noninverting and Inverting Input Pins of the Amplifi er, Respectively. For best performance, it is highly recommended that stray capacitance be kept to an absolute minimum by keeping printed circuit connections as short as (See Datasheet)", 16 NC "No Connection. These pins are not connected internally.", 17 EP (power) "Tie the pad to V- (Pins 3, 9, and 12). If split supplies are used, do not tie the pad to ground."